# Altium integrated library TEST_POINT.IntLib: 1 symbol
Pins are listed as number, name and electrical type; pins without a type are passive.

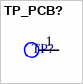
[diagram p0: symbol TP_PCB?]

## TP_PCB?
designator TP?, comment Test_Point_PCB  (value not drawn)
Test_Point
footprint Test_Point
footprint Test_Point
footprint Test_Point
pins: 1 G9